# Altium schematic symbol library 0805YC105JAT2A.SchLib: 1 symbol
Pins are listed as number, name and electrical type; pins without a type are passive.

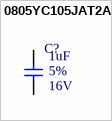
[diagram p0: symbol 0805YC105JAT2A]

## 0805YC105JAT2A
designator C?  Rated Voltage: 16V  Tolerance: 5%  Capacitence: 1uF  (hidden comment: 0805YC105JAT2A)
CAP CER 1UF 16V X7R 0805; MFR: AVX Corporation; PN: 0805YC105JAT2A; ComponentLink1Description: Datasheet; ComponentLink1URL: https://datasheet.octopart.com/0805YC105JAT2A-AVX-datasheet-78690206.pdf; Temperature Coefficient: X7R; Package: 0805; Footprint: C0805; Supplier 1: Digi-Key; Supplier Part Number 1: 478-10570-1-ND
footprint C0805 (A generic C0805 footprint)
pins: 1, 2